# Altium schematic symbol library STM32G071GBU6.SchLib: 1 symbol
Pins are listed as number, name and electrical type; pins without a type are passive.

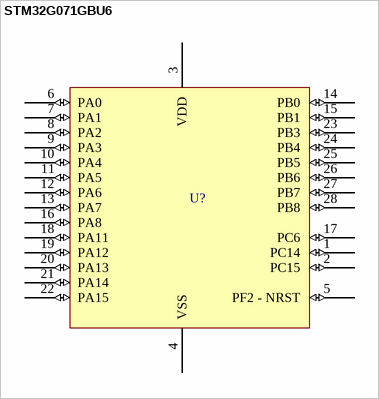
[diagram p0: symbol STM32G071GBU6]

## STM32G071GBU6
designator U?  (value not drawn)
Mainstream Arm Cortex-M0+ MCU with 128 Kbytes of Flash memory, 36 Kbytes RAM, 64 MHz CPU, 4x USART, timers, ADC, DAC, comm. I/F, 1.7-3.6V
pins: 1 PC14 (io), 2 PC15 (io), 3 VDD (power), 4 VSS (power), 5 PF2 - NRST (io), 6 PA0 (io), 7 PA1 (io), 8 PA2 (io), 9 PA3 (io), 10 PA4 (io), 11 PA5 (io), 12 PA6 (io), 13 PA7 (io), 14 PB0 (io), 15 PB1 (io), 16 PA8 (io), 17 PC6 (io), 18 PA11 (io), 19 PA12 (io), 20 PA13 (io), 21 PA14 (io), 22 PA15 (io), 23 PB3 (io), 24 PB4 (io), 25 PB5 (io), 26 PB6 (io), 27 PB7 (io), 28 PB8 (io)